# EAGLE library part 1473005-4 (library CONNECTORs)
200 Position SODIMM DDR2 SDRAM Socket Surface Mount, Right Angle
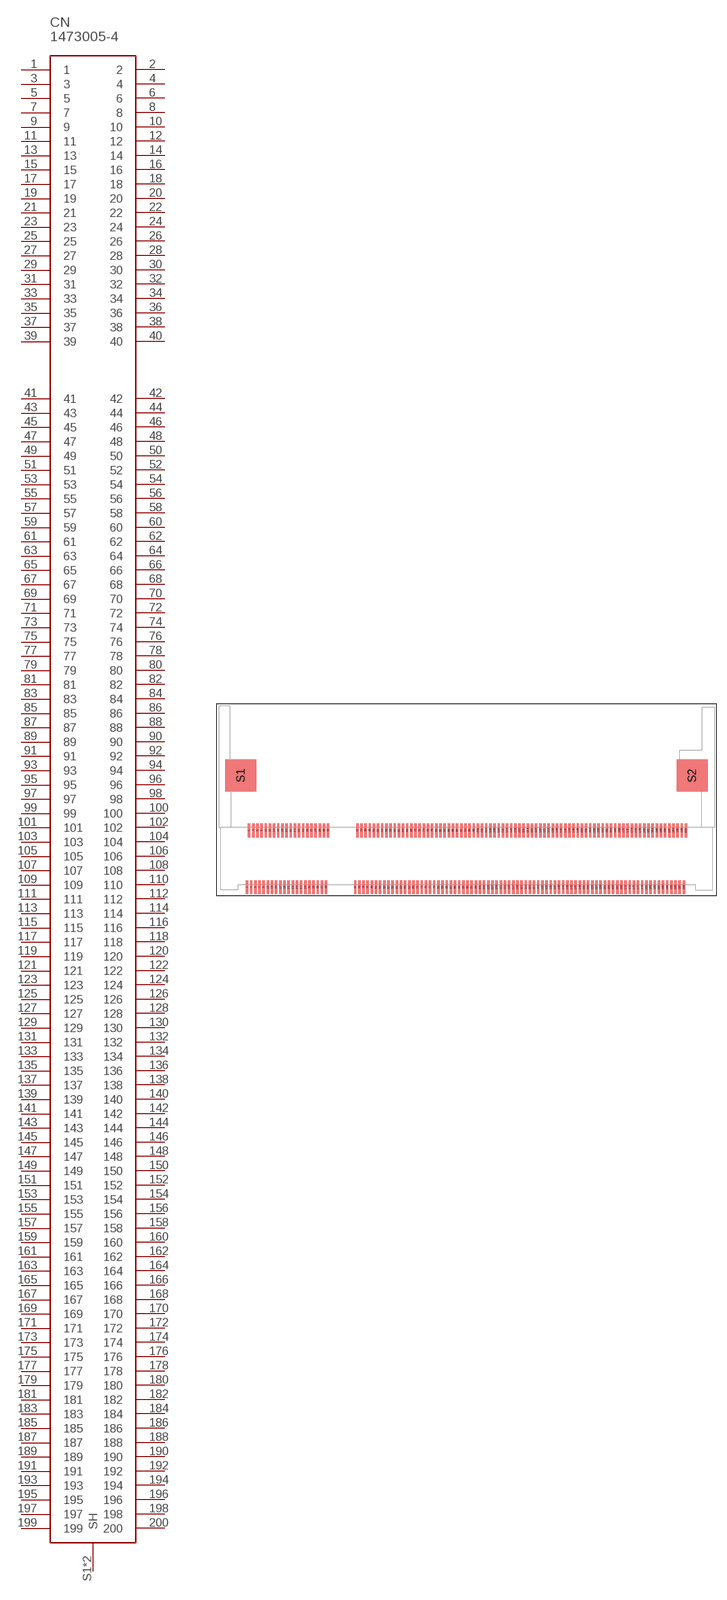
[diagram p57: symbol with the pads of 1473005-4; footprint 1473005-4]

Designator prefix CN

## 1473005-4 (DIGIKEY: A114851-ND; HEIGHT: 5.2; PRICE_PER: 3.27; VALUE: DDR2 SODIMM)  [1473005-4]
1  1
2  2
3  3
4  4
5  5
6  6
7  7
8  8
9  9
10  10
11  11
12  12
13  13
14  14
15  15
16  16
17  17
18  18
19  19
20  20
21  21
22  22
23  23
24  24
25  25
26  26
27  27
28  28
29  29
30  30
31  31
32  32
33  33
34  34
35  35
36  36
37  37
38  38
39  39
40  40
41  41
42  42
43  43
44  44
45  45
46  46
47  47
48  48
49  49
50  50
51  51
52  52
53  53
54  54
55  55
56  56
57  57
58  58
59  59
60  60
61  61
62  62
63  63
64  64
65  65
66  66
67  67
68  68
69  69
70  70
71  71
72  72
73  73
74  74
75  75
76  76
77  77
78  78
79  79
80  80
81  81
82  82
83  83
84  84
85  85
86  86
87  87
88  88
89  89
90  90
91  91
92  92
93  93
94  94
95  95
96  96
97  97
98  98
99  99
100  100
101  101
102  102
103  103
104  104
105  105
106  106
107  107
108  108
109  109
110  110
111  111
112  112
113  113
114  114
115  115
116  116
117  117
118  118
119  119
120  120
121  121
122  122
123  123
124  124
125  125
126  126
127  127
128  128
129  129
130  130
131  131
132  132
133  133
134  134
135  135
136  136
137  137
138  138
139  139
140  140
141  141
142  142
143  143
144  144
145  145
146  146
147  147
148  148
149  149
150  150
151  151
152  152
153  153
154  154
155  155
156  156
157  157
158  158
159  159
160  160
161  161
162  162
163  163
164  164
165  165
166  166
167  167
168  168
169  169
170  170
171  171
172  172
173  173
174  174
175  175
176  176
177  177
178  178
179  179
180  180
181  181
182  182
183  183
184  184
185  185
186  186
187  187
188  188
189  189
190  190
191  191
192  192
193  193
194  194
195  195
196  196
197  197
198  198
199  199
200  200
S1  SH
S2  SH

## Footprint 1473005-4 (pad centres in mm)
smd 0.35 x 2: 1 -31.65,-4.1; 2 -31.35,4.1; 3 -31.05,-4.1; 4 -30.75,4.1; 5 -30.45,-4.1; 6 -30.15,4.1; 7 -29.85,-4.1; 8 -29.55,4.1; 9 -29.25,-4.1; 10 -28.95,4.1; 11 -28.65,-4.1; 12 -28.35,4.1; 13 -28.05,-4.1; 14 -27.75,4.1; 15 -27.45,-4.1; 16 -27.15,4.1; 17 -26.85,-4.1; 18 -26.55,4.1; 19 -26.25,-4.1; 20 -25.95,4.1; 21 -25.65,-4.1; 22 -25.35,4.1; 23 -25.05,-4.1; 24 -24.75,4.1; 25 -24.45,-4.1; 26 -24.15,4.1; 27 -23.85,-4.1; 28 -23.55,4.1; 29 -23.25,-4.1; 30 -22.95,4.1; 31 -22.65,-4.1; 32 -22.35,4.1; 33 -22.05,-4.1; 34 -21.75,4.1; 35 -21.45,-4.1; 36 -21.15,4.1; 37 -20.85,-4.1; 38 -20.55,4.1; 39 -20.25,-4.1; 40 -19.95,4.1; 41 -16.05,-4.1; 42 -15.75,4.1; 43 -15.45,-4.1; 44 -15.15,4.1; 45 -14.85,-4.1; 46 -14.55,4.1; 47 -14.25,-4.1; 48 -13.95,4.1; 49 -13.65,-4.1; 50 -13.35,4.1; 51 -13.05,-4.1; 52 -12.75,4.1; 53 -12.45,-4.1; 54 -12.15,4.1; 55 -11.85,-4.1; 56 -11.55,4.1; 57 -11.25,-4.1; 58 -10.95,4.1; 59 -10.65,-4.1; 60 -10.35,4.1; 61 -10.05,-4.1; 62 -9.75,4.1; 63 -9.45,-4.1; 64 -9.15,4.1; 65 -8.85,-4.1; 66 -8.55,4.1; 67 -8.25,-4.1; 68 -7.95,4.1; 69 -7.65,-4.1; 70 -7.35,4.1; 71 -7.05,-4.1; 72 -6.75,4.1; 73 -6.45,-4.1; 74 -6.15,4.1; 75 -5.85,-4.1; 76 -5.55,4.1; 77 -5.25,-4.1; 78 -4.95,4.1; 79 -4.65,-4.1; 80 -4.35,4.1; 81 -4.05,-4.1; 82 -3.75,4.1; 83 -3.45,-4.1; 84 -3.15,4.1; 85 -2.85,-4.1; 86 -2.55,4.1; 87 -2.25,-4.1; 88 -1.95,4.1; 89 -1.65,-4.1; 90 -1.35,4.1; 91 -1.05,-4.1; 92 -0.75,4.1; 93 -0.45,-4.1; 94 -0.15,4.1; 95 0.15,-4.1; 96 0.45,4.1; 97 0.75,-4.1; 98 1.05,4.1; 99 1.35,-4.1; 100 1.65,4.1; 101 1.95,-4.1; 102 2.25,4.1; 103 2.55,-4.1; 104 2.85,4.1; 105 3.15,-4.1; 106 3.45,4.1; 107 3.75,-4.1; 108 4.05,4.1; 109 4.35,-4.1; 110 4.65,4.1; 111 4.95,-4.1; 112 5.25,4.1; 113 5.55,-4.1; 114 5.85,4.1; 115 6.15,-4.1; 116 6.45,4.1; 117 6.75,-4.1; 118 7.05,4.1; 119 7.35,-4.1; 120 7.65,4.1; 121 7.95,-4.1; 122 8.25,4.1; 123 8.55,-4.1; 124 8.85,4.1; 125 9.15,-4.1; 126 9.45,4.1; 127 9.75,-4.1; 128 10.05,4.1; 129 10.35,-4.1; 130 10.65,4.1; 131 10.95,-4.1; 132 11.25,4.1; 133 11.55,-4.1; 134 11.85,4.1; 135 12.15,-4.1; 136 12.45,4.1; 137 12.75,-4.1; 138 13.05,4.1; 139 13.35,-4.1; 140 13.65,4.1; 141 13.95,-4.1; 142 14.25,4.1; 143 14.55,-4.1; 144 14.85,4.1; 145 15.15,-4.1; 146 15.45,4.1; 147 15.75,-4.1; 148 16.05,4.1; 149 16.35,-4.1; 150 16.65,4.1; 151 16.95,-4.1; 152 17.25,4.1; 153 17.55,-4.1; 154 17.85,4.1; 155 18.15,-4.1; 156 18.45,4.1; 157 18.75,-4.1; 158 19.05,4.1; 159 19.35,-4.1; 160 19.65,4.1; 161 19.95,-4.1; 162 20.25,4.1; 163 20.55,-4.1; 164 20.85,4.1; 165 21.15,-4.1; 166 21.45,4.1; 167 21.75,-4.1; 168 22.05,4.1; 169 22.35,-4.1; 170 22.65,4.1; 171 22.95,-4.1; 172 23.25,4.1; 173 23.55,-4.1; 174 23.85,4.1; 175 24.15,-4.1; 176 24.45,4.1; 177 24.75,-4.1; 178 25.05,4.1; 179 25.35,-4.1; 180 25.65,4.1; 181 25.95,-4.1; 182 26.25,4.1; 183 26.55,-4.1; 184 26.85,4.1; 185 27.15,-4.1; 186 27.45,4.1; 187 27.75,-4.1; 188 28.05,4.1; 189 28.35,-4.1; 190 28.65,4.1; 191 28.95,-4.1; 192 29.25,4.1; 193 29.55,-4.1; 194 29.85,4.1; 195 30.15,-4.1; 196 30.45,4.1; 197 30.75,-4.1; 198 31.05,4.1; 199 31.35,-4.1; 200 31.65,4.1
smd 4.5 x 4.6: S1 -32.55,12; S2 32.55,12